# EAGLE library part LMV602 (library (custom)-new-components_temp)
The library has been designed by Richard Magdycz <https://www.facebook.com/groups/eaglecadsoftUK>
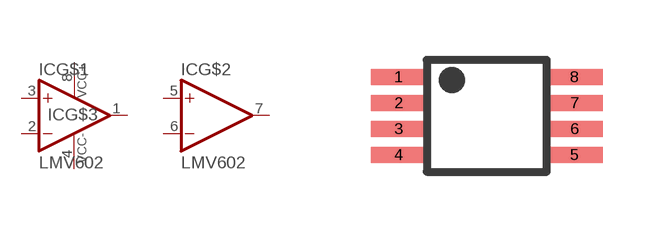
[diagram p0: symbol with the pads of VSSOP8; footprint VSSOP8]

Designator prefix IC; gates G$1=A G$2=A G$3=PWR

## LMV602 (MPN: LMV602MM/NOPB)  [VSSOP8]
1  G$1:OUT  out
2  G$1:IN-  in
3  G$1:IN+  in
4  G$3:VCC-  pwr
5  G$2:IN+  in
6  G$2:IN-  in
7  G$2:OUT  out
8  G$3:VCC+  pwr

## Footprint VSSOP8 (pad centres in mm)
Plastic Small Outline
smd 1.4 x 0.4: 1 -2.2,0.975; 2 -2.2,0.325; 3 -2.2,-0.325; 4 -2.2,-0.975; 5 2.2,-0.975; 6 2.2,-0.325; 7 2.2,0.325; 8 2.2,0.975